# EAGLE library part LPC11C22 (library usevolt)
NXP MCU, 32BIT, CORTEX-M0, 50MHZ, LQFP-48, 2314753
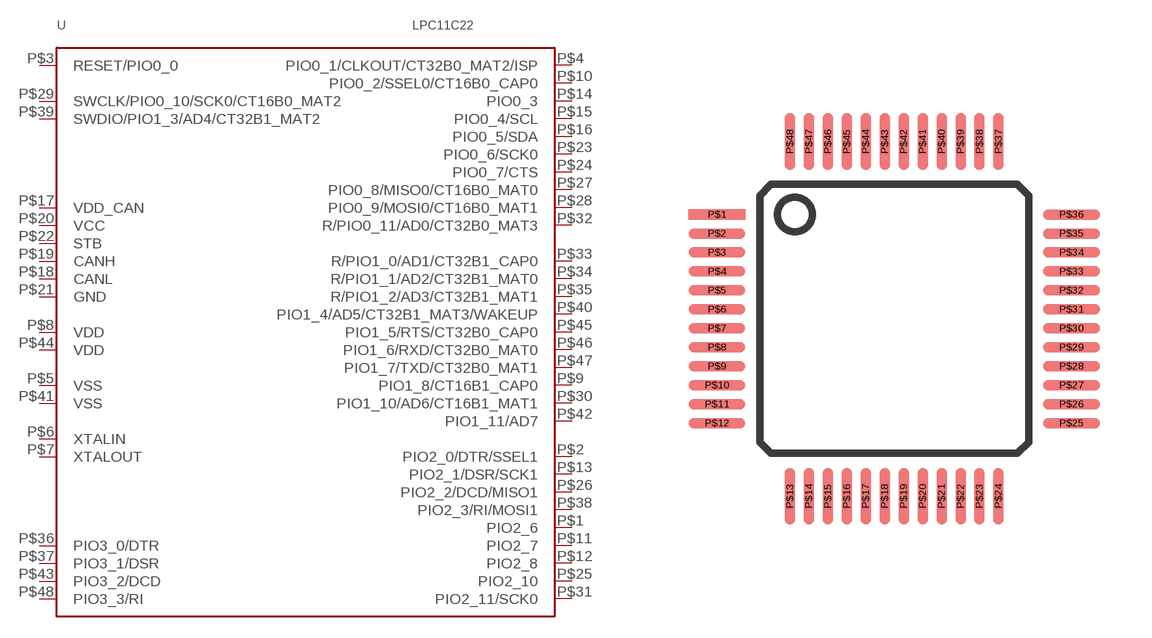
[diagram p17: symbol with the pads of QFP48; footprint QFP48]

Designator prefix U

## LPC11C22QFP48  [QFP48]
P$1  PIO2_6
P$2  PIO2_0/DTR/SSEL1
P$3  RESET/PIO0_0
P$4  PIO0_1/CLKOUT/CT32B0_MAT2/ISP
P$5  VSS
P$6  XTALIN
P$7  XTALOUT
P$8  VDD
P$9  PIO1_8/CT16B1_CAP0
P$10  PIO0_2/SSEL0/CT16B0_CAP0
P$11  PIO2_7
P$12  PIO2_8
P$13  PIO2_1/DSR/SCK1
P$14  PIO0_3
P$15  PIO0_4/SCL
P$16  PIO0_5/SDA
P$17  VDD_CAN
P$18  CANL
P$19  CANH
P$20  VCC
P$21  GND
P$22  STB
P$23  PIO0_6/SCK0
P$24  PIO0_7/CTS
P$25  PIO2_10
P$26  PIO2_2/DCD/MISO1
P$27  PIO0_8/MISO0/CT16B0_MAT0
P$28  PIO0_9/MOSI0/CT16B0_MAT1
P$29  SWCLK/PIO0_10/SCK0/CT16B0_MAT2
P$30  PIO1_10/AD6/CT16B1_MAT1
P$31  PIO2_11/SCK0
P$32  R/PIO0_11/AD0/CT32B0_MAT3
P$33  R/PIO1_0/AD1/CT32B1_CAP0
P$34  R/PIO1_1/AD2/CT32B1_MAT0
P$35  R/PIO1_2/AD3/CT32B1_MAT1
P$36  PIO3_0/DTR
P$37  PIO3_1/DSR
P$38  PIO2_3/RI/MOSI1
P$39  SWDIO/PIO1_3/AD4/CT32B1_MAT2
P$40  PIO1_4/AD5/CT32B1_MAT3/WAKEUP
P$41  VSS
P$42  PIO1_11/AD7
P$43  PIO3_2/DCD
P$44  VDD
P$45  PIO1_5/RTS/CT32B0_CAP0
P$46  PIO1_6/RXD/CT32B0_MAT0
P$47  PIO1_7/TXD/CT32B0_MAT1
P$48  PIO3_3/RI

## Footprint QFP48 (pad centres in mm)
smd 1.5 x 0.28: P$1 0.2,0; P$2 0.2,-0.5; P$3 0.2,-1; P$4 0.2,-1.5; P$5 0.2,-2; P$6 0.2,-2.5; P$7 0.2,-3; P$8 0.2,-3.5; P$9 0.2,-4; P$10 0.2,-4.5; P$11 0.2,-5; P$12 0.2,-5.5; P$25 9.55,-5.5; P$26 9.55,-5; P$27 9.55,-4.5; P$28 9.55,-4; P$29 9.55,-3.5; P$30 9.55,-3; P$31 9.55,-2.5; P$32 9.55,-2; P$33 9.55,-1.5; P$34 9.55,-1; P$35 9.55,-0.5; P$36 9.55,0
smd 0.28 x 1.5: P$13 2.125,-7.425; P$14 2.625,-7.425; P$15 3.125,-7.425; P$16 3.625,-7.425; P$17 4.125,-7.425; P$18 4.625,-7.425; P$19 5.125,-7.425; P$20 5.625,-7.425; P$21 6.125,-7.425; P$22 6.625,-7.425; P$23 7.125,-7.425; P$24 7.625,-7.425; P$37 7.625,1.925; P$38 7.125,1.925; P$39 6.625,1.925; P$40 6.125,1.925; P$41 5.625,1.925; P$42 5.125,1.925; P$43 4.625,1.925; P$44 4.125,1.925; P$45 3.625,1.925; P$46 3.125,1.925; P$47 2.625,1.925; P$48 2.125,1.925